# Altium footprint library PWRIND.PcbLib: 1 footprints
Each footprint in its own frame and in the unit in brackets; x right, y up, seen from the top. Pads: shape width x height; smd on the part's side, far side on the other; paste and mask are expansions set on the pad; w line width, h text height; cw(c..) or ccw(c..) is an arc to the next point about the centre after c.
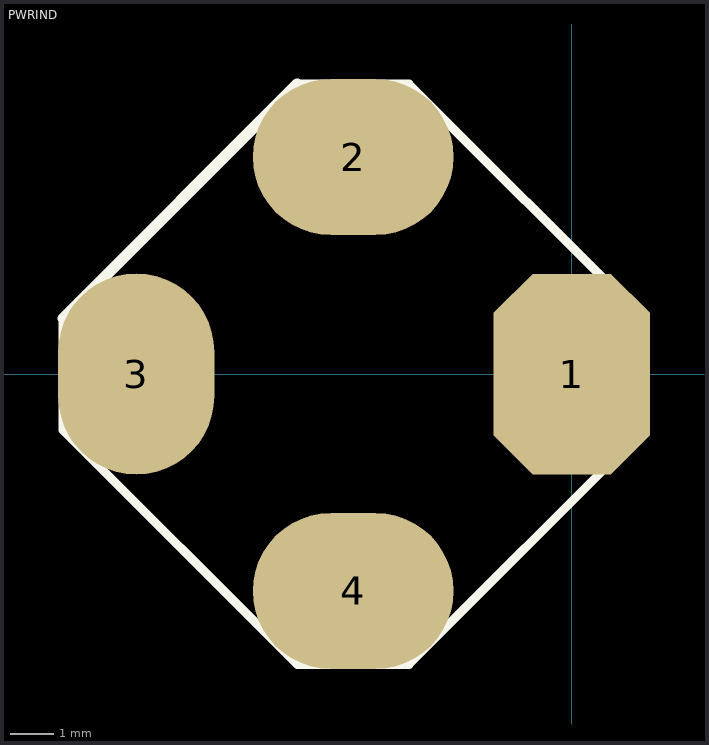
[diagram p0: the footprint, top view; thin cyan lines are the x and y axes]

## PWRIND [mil]
pads (4):
  oct 140x180 smd: 1(0,0)
  oval 180x140 smd: 2(-195.86,194.63) 4(-195.86,-194.28)
  oval 140x180 smd: 3(-390.31,0.17)
Top Overlay:
  lines w8: -456,50 -456,-50 -246,-260 -146,-260 64,-50 64,50 -146,260 -246,260
  lines w10: -456,50 -246,260
  text "." at 80,0 h60